# Altium schematic symbol library SMTU2450N-LF_BULK.SchLib: 1 symbol
Pins are listed as number, name and electrical type; pins without a type are passive.

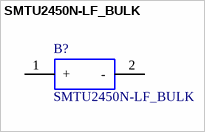
[diagram p0: symbol SMTU2450N-LF_BULK]

## SMTU2450N-LF_BULK
designator B?
Coin Cell Battery Holders SFC MNT FOR CR2450N; Manufacturer_Name: RENATA; Manufacturer_Part_Number: SMTU2450N-LF BULK; Mouser Part Number: 614-SMTU2450N-LF; Datasheet Link: https://componentsearchengine.com/Datasheets/1/SMTU2450N-LF BULK.pdf
footprint SMTU2430-LF
pins: 1 +, 2 -